# Altium integrated library NSC Analog.IntLib: 165 symbols (part 2 of 5)
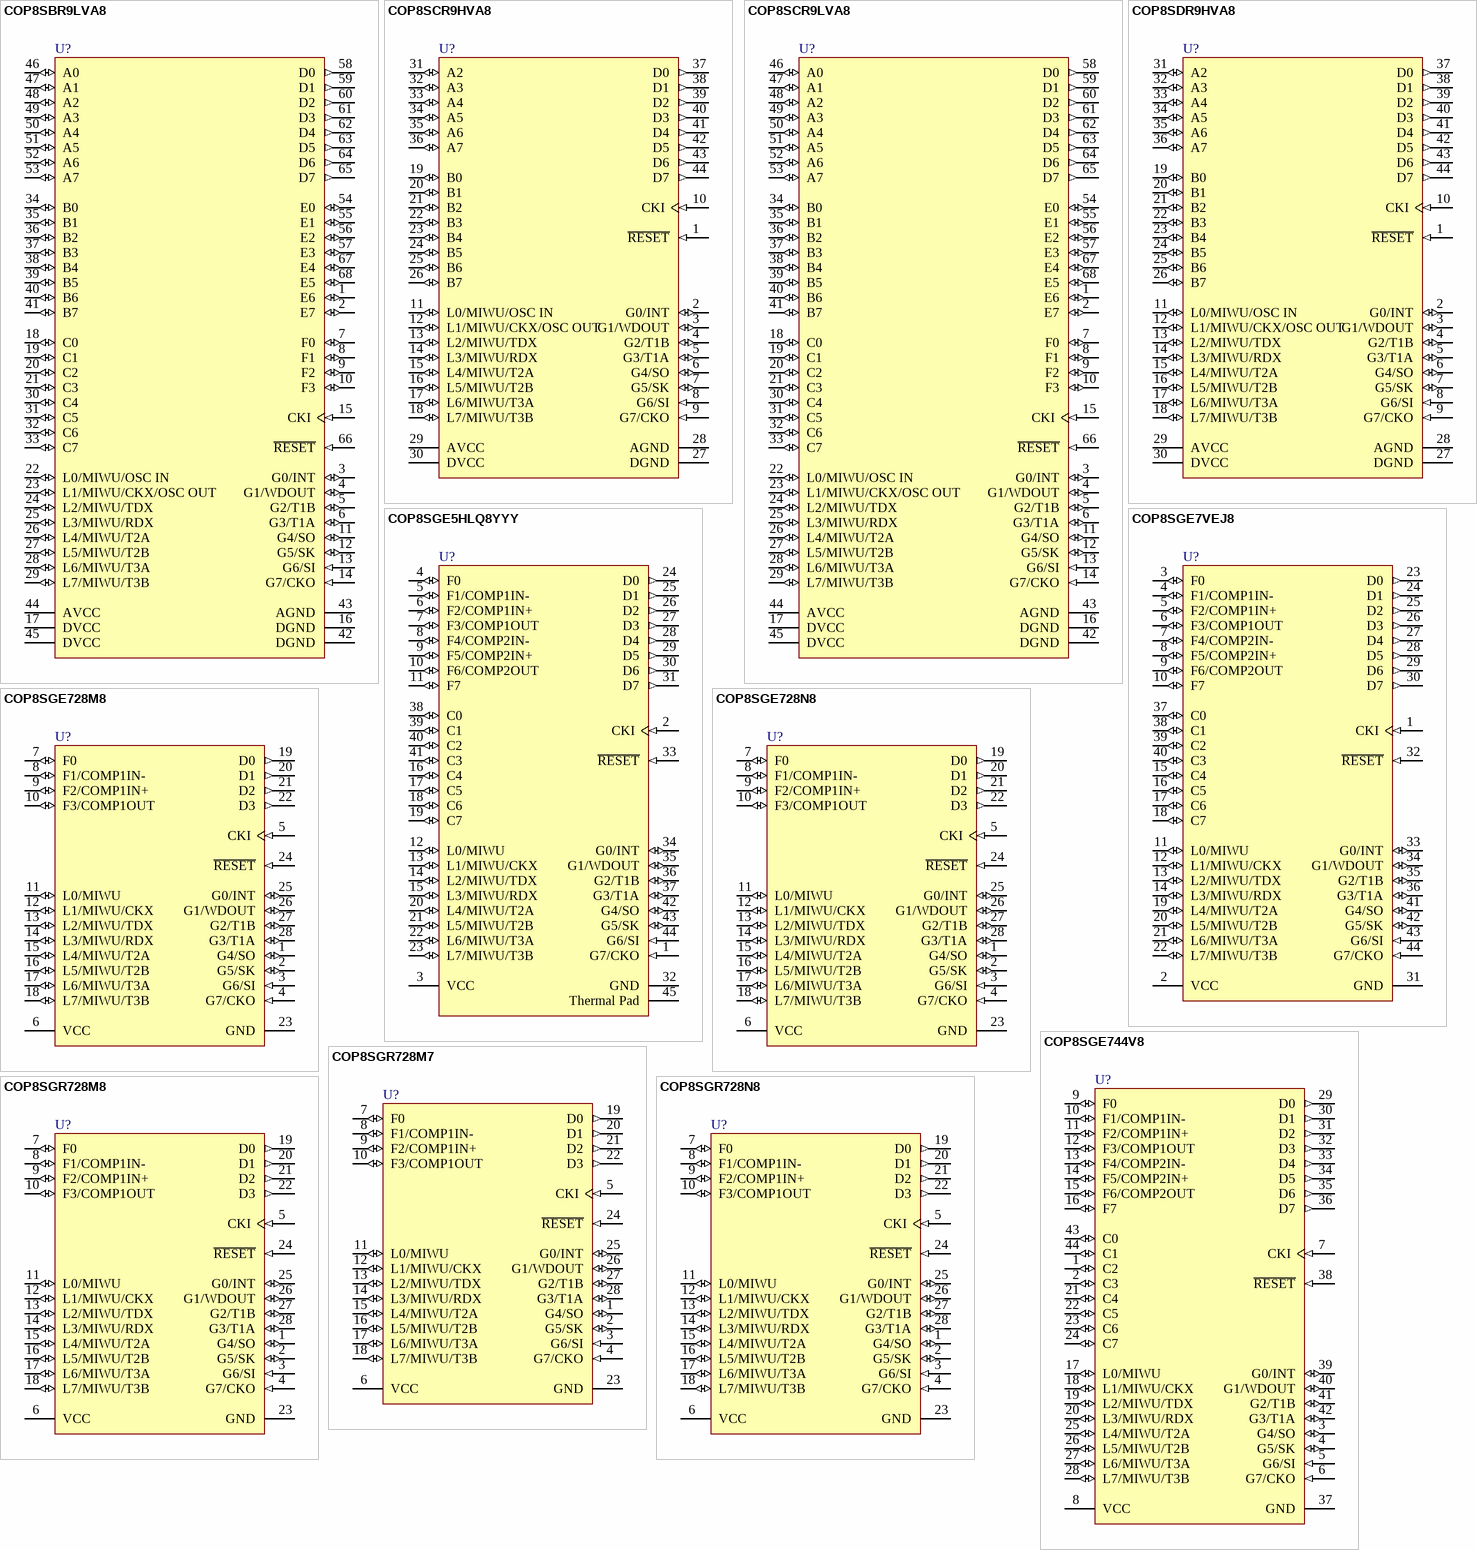
[diagram p8: symbols COP8SBR9LVA8 to COP8SGR728N8]

## COP8SGE728M8
designator U?
8-Bit CMOS ROM Based and OTP Microcontrollers with 8k to 32k Memory, Two Comparators and USART, 28-pin Wide SOIC; PartNumber: COP8SGE728M8; Manufacturer: National Semiconductor; PackageTopMarking: NSUZXYTTE#*COP8SGE7*28M8; PowerWise: N; CompType: Analog IC; Published: 4-Dec-2008; DatasheetVersion: Oct-2001; PackageVersion: revB, Nov-1997; PackageReference: M28B; Publisher: Altium Limited; PackageDescription: Molded Package, S.O., .300in Wide, 28 Lead; Supplier 1: Farnell; Supplier Part Number 1: 121850; RoHS: N; PinCount: 28; ComponentLink1Description: COP8SGE7 Datasheet; ComponentLink1URL: http://www.national.com/ds/CO/COP8SGE7.pdf; ComponentLink2Description: COP8SGE7 Web Page; ComponentLink2URL: http://www.national.com/pf/CO/COP8SGE7.html; ComponentLink3Description: M28B Package Page; ComponentLink3URL: http://www.national.com/packaging/folders/m28b.html
footprint M28B_N (SOIC, 28-Leads, Body 17.9x7.5mm, Pitch 1.27mm, IPC Medium Density)
footprint M28B_L (SOIC, 28-Leads, Body 17.9x7.5mm, Pitch 1.27mm, IPC High Density)
footprint M28B_M (SOIC, 28-Leads, Body 17.9x7.5mm, Pitch 1.27mm, IPC Low Density)
pins: 1 G4/SO (io), 2 G5/SK (io), 3 G6/SI (in), 4 G7/CKO (in), 5 CKI (in), 6 VCC (power), 7 F0 (io), 8 F1/COMP1IN- (io), 9 F2/COMP1IN+ (io), 10 F3/COMP1OUT (io), 11 L0/MIWU (io), 12 L1/MIWU/CKX (io), 13 L2/MIWU/TDX (io), 14 L3/MIWU/RDX (io), 15 L4/MIWU/T2A (io), 16 L5/MIWU/T2B (io), 17 L6/MIWU/T3A (io), 18 L7/MIWU/T3B (io), 19 D0 (out), 20 D1 (out), 21 D2 (out), 22 D3 (out), 23 GND (power), 24 ~{RESET} (in), 25 G0/INT (io), 26 G1/WDOUT (io), 27 G2/T1B (io), 28 G3/T1A (io)

## COP8SGE728N8
designator U?
8-Bit CMOS ROM Based and OTP Microcontrollers with 8k to 32k Memory, Two Comparators and USART, 28-pin MDIP; PartNumber: COP8SGE728N8; Manufacturer: National Semiconductor; PackageTopMarking: NSUZXYYTTE#*COP8SGE728N8; PowerWise: N; CompType: Analog IC; Published: 4-Dec-2008; DatasheetVersion: Oct-2001; PackageVersion: revB, Aug-1993; PackageReference: NA28E; Publisher: Altium Limited; PackageDescription: Molded Dip, 28 Lead, .600 Centers, Substractor Package; RoHS: N; PinCount: 28; ComponentLink1Description: COP8SGE7 Datasheet; ComponentLink1URL: http://www.national.com/ds/CO/COP8SGE7.pdf; ComponentLink2Description: COP8SGE7 Web Page; ComponentLink2URL: http://www.national.com/pf/CO/COP8SGE7.html; ComponentLink3Description: NA28E Package Page; ComponentLink3URL: http://www.national.com/packaging/folders/na28e.html
footprint NA28E (DIP, 28-Leads, Row Spacing 15.24mm, Pitch 2.54mm, Body 36.83x13.72mm)
pins: 1 G4/SO (io), 2 G5/SK (io), 3 G6/SI (in), 4 G7/CKO (in), 5 CKI (in), 6 VCC (power), 7 F0 (io), 8 F1/COMP1IN- (io), 9 F2/COMP1IN+ (io), 10 F3/COMP1OUT (io), 11 L0/MIWU (io), 12 L1/MIWU/CKX (io), 13 L2/MIWU/TDX (io), 14 L3/MIWU/RDX (io), 15 L4/MIWU/T2A (io), 16 L5/MIWU/T2B (io), 17 L6/MIWU/T3A (io), 18 L7/MIWU/T3B (io), 19 D0 (out), 20 D1 (out), 21 D2 (out), 22 D3 (out), 23 GND (power), 24 ~{RESET} (in), 25 G0/INT (io), 26 G1/WDOUT (io), 27 G2/T1B (io), 28 G3/T1A (io)

## COP8SGE744V8
designator U?
8-Bit CMOS ROM Based and OTP Microcontrollers with 8k to 32k Memory, Two Comparators and USART, 44-pin PLCC; PartNumber: COP8SGE744V8; Manufacturer: National Semiconductor; PackageTopMarking: NSUZXYYTTE#*COP8SGE744V8; PowerWise: N; CompType: Analog IC; Published: 4-Dec-2008; DatasheetVersion: Oct-2001; PackageVersion: revK, Dec-1993; PackageReference: V44A; Publisher: Altium Limited; PackageDescription: Plastic Chip Carrier, Sq, .050in Pitch, 44 Lead; RoHS: N; PinCount: 44; Code_IPC: PLCC-44; ComponentLink1Description: COP8SGE7 Datasheet; ComponentLink1URL: http://www.national.com/ds/CO/COP8SGE7.pdf; ComponentLink2Description: COP8SGE7 Web Page; ComponentLink2URL: http://www.national.com/pf/CO/COP8SGE7.html; ComponentLink3Description: V44A Package Page; ComponentLink3URL: http://www.national.com/packaging/folders/v44a.html
footprint V44A_N (Leaded Chip Carrier, 44-Leads, Body 16.6x16.6mm, Pitch 1.27mm, IPC Medium Density)
footprint V44A_L (Leaded Chip Carrier, 44-Leads, Body 16.6x16.6mm, Pitch 1.27mm, IPC High Density)
footprint V44A_M (Leaded Chip Carrier, 44-Leads, Body 16.6x16.6mm, Pitch 1.27mm, IPC Low Density)
pins: 1 C2 (io), 2 C3 (io), 3 G4/SO (io), 4 G5/SK (io), 5 G6/SI (in), 6 G7/CKO (in), 7 CKI (in), 8 VCC (power), 9 F0 (io), 10 F1/COMP1IN- (io), 11 F2/COMP1IN+ (io), 12 F3/COMP1OUT (io), 13 F4/COMP2IN- (io), 14 F5/COMP2IN+ (io), 15 F6/COMP2OUT (io), 16 F7 (io), 17 L0/MIWU (io), 18 L1/MIWU/CKX (io), 19 L2/MIWU/TDX (io), 20 L3/MIWU/RDX (io), 21 C4 (io), 22 C5 (io), 23 C6 (io), 24 C7 (io), 25 L4/MIWU/T2A (io), 26 L5/MIWU/T2B (io), 27 L6/MIWU/T3A (io), 28 L7/MIWU/T3B (io), 29 D0 (out), 30 D1 (out), 31 D2 (out), 32 D3 (out), 33 D4 (out), 34 D5 (out), 35 D6 (out), 36 D7 (out), 37 GND (power), 38 ~{RESET} (in), 39 G0/INT (io), 40 G1/WDOUT (io), 41 G2/T1B (io), 42 G3/T1A (io), 43 C0 (io), 44 C1 (io)

## COP8SGR728M7
designator U?
8-Bit CMOS ROM Based and OTP Microcontrollers with 8k to 32k Memory, Two Comparators and USART, 28-pin Wide SOIC; PartNumber: COP8SGR728M7; Manufacturer: National Semiconductor; PackageTopMarking: NSUZXYTTE#*COP8SGR728M7; PowerWise: N; CompType: Analog IC; Published: 4-Dec-2008; DatasheetVersion: Oct-2001; PackageVersion: revB, Nov-1997; PackageReference: M28B; Publisher: Altium Limited; PackageDescription: Molded Package, S.O., .300in Wide, 28 Lead; RoHS: N; PinCount: 28; ComponentLink1Description: COP8SGR7 Datasheet; ComponentLink1URL: http://www.national.com/ds/CO/COP8SGR7.pdf; ComponentLink2Description: COP8SGR7 Web Page; ComponentLink2URL: http://www.national.com/pf/CO/COP8SGR7.html; ComponentLink3Description: M28B Package Page; ComponentLink3URL: http://www.national.com/packaging/folders/m28b.html
footprint M28B_N (SOIC, 28-Leads, Body 17.9x7.5mm, Pitch 1.27mm, IPC Medium Density)
footprint M28B_L (SOIC, 28-Leads, Body 17.9x7.5mm, Pitch 1.27mm, IPC High Density)
footprint M28B_M (SOIC, 28-Leads, Body 17.9x7.5mm, Pitch 1.27mm, IPC Low Density)
pins: 1 G4/SO (io), 2 G5/SK (io), 3 G6/SI (in), 4 G7/CKO (in), 5 CKI (in), 6 VCC (power), 7 F0 (io), 8 F1/COMP1IN- (io), 9 F2/COMP1IN+ (io), 10 F3/COMP1OUT (io), 11 L0/MIWU (io), 12 L1/MIWU/CKX (io), 13 L2/MIWU/TDX (io), 14 L3/MIWU/RDX (io), 15 L4/MIWU/T2A (io), 16 L5/MIWU/T2B (io), 17 L6/MIWU/T3A (io), 18 L7/MIWU/T3B (io), 19 D0 (out), 20 D1 (out), 21 D2 (out), 22 D3 (out), 23 GND (power), 24 ~{RESET} (in), 25 G0/INT (io), 26 G1/WDOUT (io), 27 G2/T1B (io), 28 G3/T1A (io)

## COP8SGR728M8
designator U?
8-Bit CMOS ROM Based and OTP Microcontrollers with 8k to 32k Memory, Two Comparators and USART, 28-pin Wide SOIC; PartNumber: COP8SGR728M8; Manufacturer: National Semiconductor; PackageTopMarking: NSUZXYTTE#*COP8SGR728M8; PowerWise: N; CompType: Analog IC; Published: 4-Dec-2008; DatasheetVersion: Oct-2001; PackageVersion: revB, Nov-1997; PackageReference: M28B; Publisher: Altium Limited; PackageDescription: Molded Package, S.O., .300in Wide, 28 Lead; RoHS: N; PinCount: 28; ComponentLink1Description: COP8SGR7 Datasheet; ComponentLink1URL: http://www.national.com/ds/CO/COP8SGR7.pdf; ComponentLink2Description: COP8SGR7 Web Page; ComponentLink2URL: http://www.national.com/pf/CO/COP8SGR7.html; ComponentLink3Description: M28B Package Page; ComponentLink3URL: http://www.national.com/packaging/folders/m28b.html
footprint M28B_N (SOIC, 28-Leads, Body 17.9x7.5mm, Pitch 1.27mm, IPC Medium Density)
footprint M28B_L (SOIC, 28-Leads, Body 17.9x7.5mm, Pitch 1.27mm, IPC High Density)
footprint M28B_M (SOIC, 28-Leads, Body 17.9x7.5mm, Pitch 1.27mm, IPC Low Density)
pins: 1 G4/SO (io), 2 G5/SK (io), 3 G6/SI (in), 4 G7/CKO (in), 5 CKI (in), 6 VCC (power), 7 F0 (io), 8 F1/COMP1IN- (io), 9 F2/COMP1IN+ (io), 10 F3/COMP1OUT (io), 11 L0/MIWU (io), 12 L1/MIWU/CKX (io), 13 L2/MIWU/TDX (io), 14 L3/MIWU/RDX (io), 15 L4/MIWU/T2A (io), 16 L5/MIWU/T2B (io), 17 L6/MIWU/T3A (io), 18 L7/MIWU/T3B (io), 19 D0 (out), 20 D1 (out), 21 D2 (out), 22 D3 (out), 23 GND (power), 24 ~{RESET} (in), 25 G0/INT (io), 26 G1/WDOUT (io), 27 G2/T1B (io), 28 G3/T1A (io)

## COP8SGR728N8
designator U?
8-Bit CMOS ROM Based and OTP Microcontrollers with 8k to 32k Memory, Two Comparators and USART, 28-pin MDIP; PartNumber: COP8SGR728N8; Manufacturer: National Semiconductor; PackageTopMarking: NSUZXYYTTE#*COP8SGR728N8; PowerWise: N; CompType: Analog IC; Published: 4-Dec-2008; DatasheetVersion: Oct-2001; PackageVersion: revB, Aug-1993; PackageReference: NA28E; Publisher: Altium Limited; PackageDescription: Molded Dip, 28 Lead, .600 Centers, Substractor Package; RoHS: N; PinCount: 28; ComponentLink1Description: COP8SGR7 Datasheet; ComponentLink1URL: http://www.national.com/ds/CO/COP8SGR7.pdf; ComponentLink2Description: COP8SGR7 Web Page; ComponentLink2URL: http://www.national.com/pf/CO/COP8SGR7.html; ComponentLink3Description: NA28E Package Page; ComponentLink3URL: http://www.national.com/packaging/folders/na28e.html
footprint NA28E (DIP, 28-Leads, Row Spacing 15.24mm, Pitch 2.54mm, Body 36.83x13.72mm)
pins: 1 G4/SO (io), 2 G5/SK (io), 3 G6/SI (in), 4 G7/CKO (in), 5 CKI (in), 6 VCC (power), 7 F0 (io), 8 F1/COMP1IN- (io), 9 F2/COMP1IN+ (io), 10 F3/COMP1OUT (io), 11 L0/MIWU (io), 12 L1/MIWU/CKX (io), 13 L2/MIWU/TDX (io), 14 L3/MIWU/RDX (io), 15 L4/MIWU/T2A (io), 16 L5/MIWU/T2B (io), 17 L6/MIWU/T3A (io), 18 L7/MIWU/T3B (io), 19 D0 (out), 20 D1 (out), 21 D2 (out), 22 D3 (out), 23 GND (power), 24 ~{RESET} (in), 25 G0/INT (io), 26 G1/WDOUT (io), 27 G2/T1B (io), 28 G3/T1A (io)

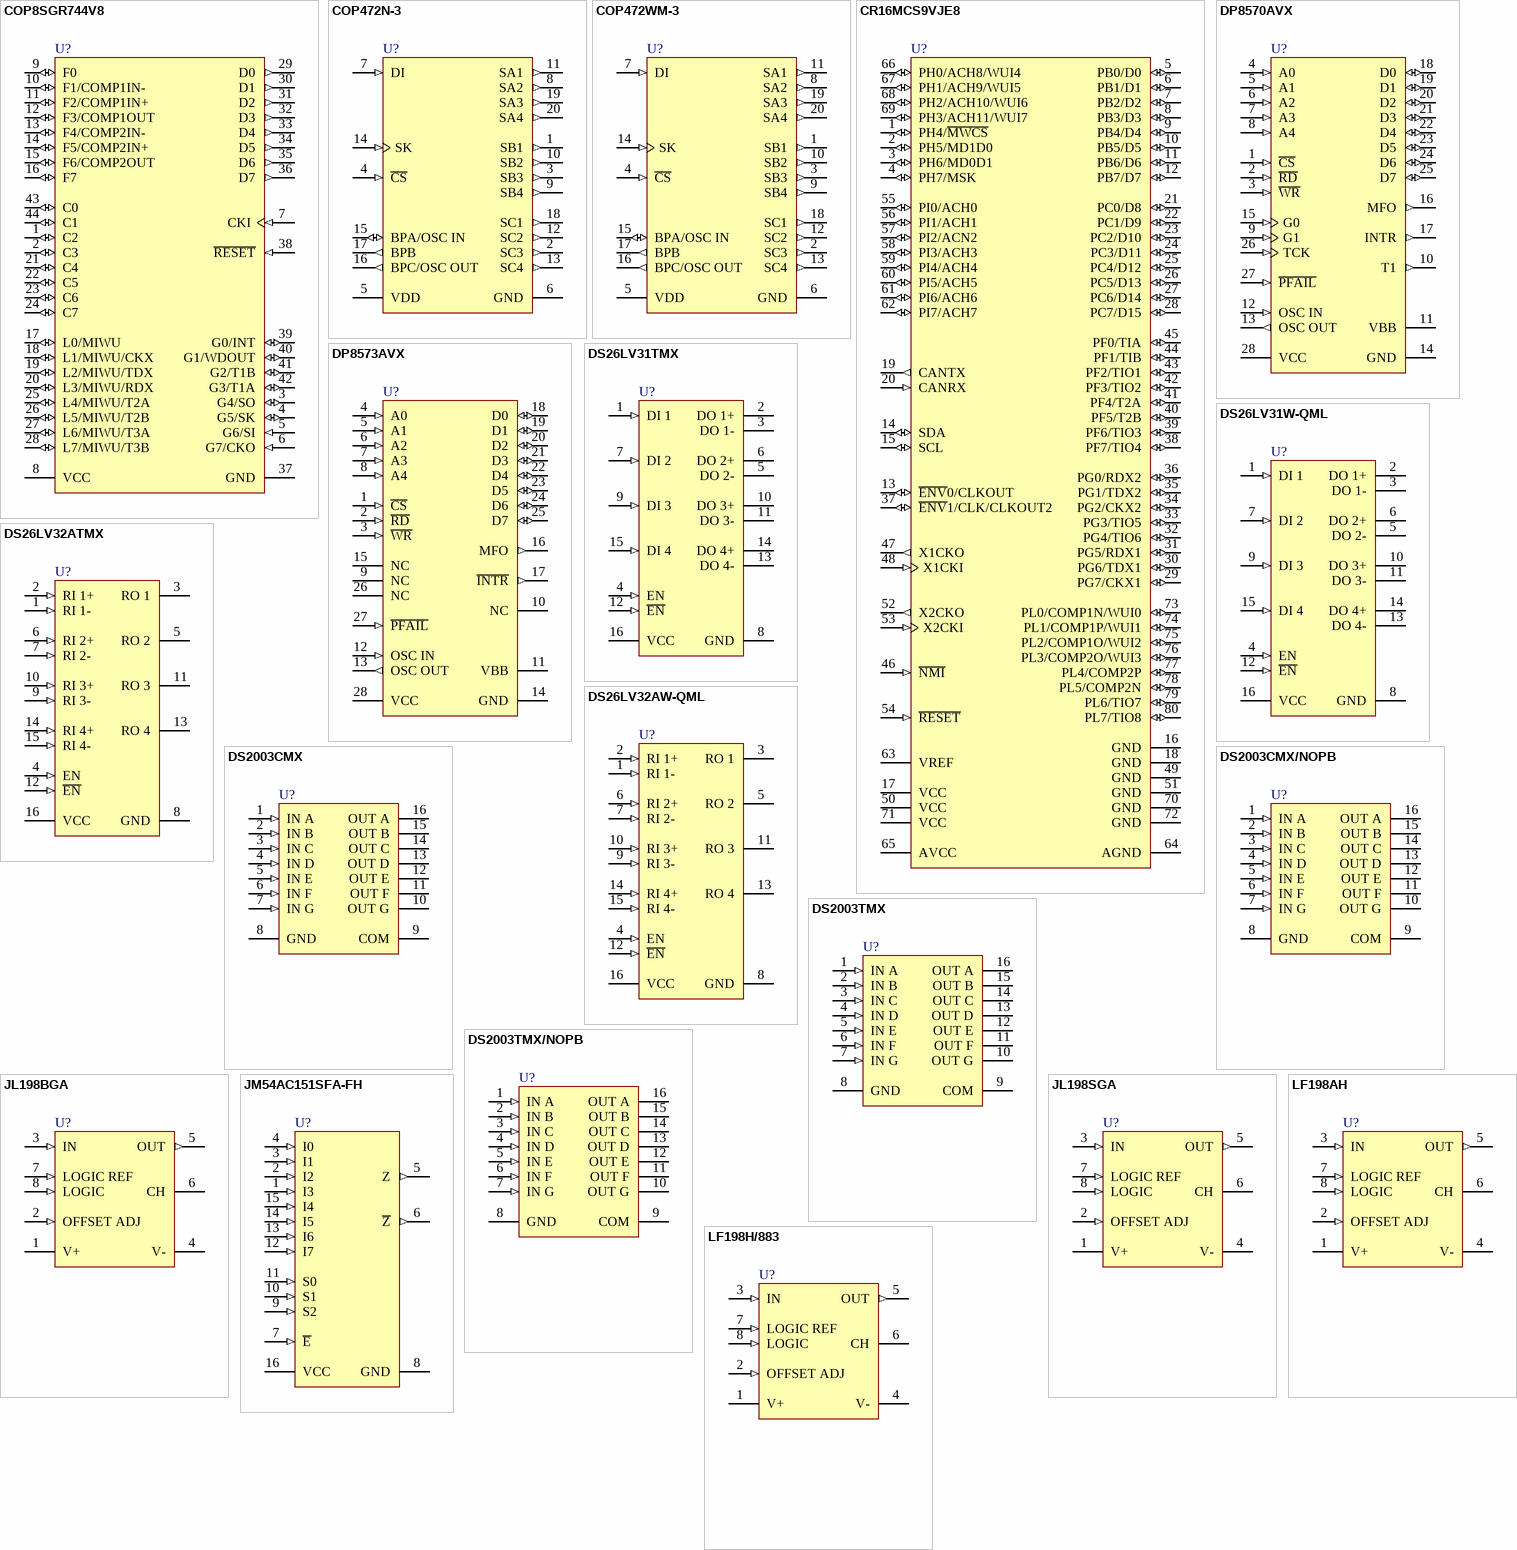
[diagram p3: symbols COP8SGR744V8 to LF198H/883]

## COP8SGR744V8
designator U?
8-Bit CMOS ROM Based and OTP Microcontrollers with 8k to 32k Memory, Two Comparators and USART, 44-pin PLCC; PartNumber: COP8SGR744V8; Manufacturer: National Semiconductor; PackageTopMarking: NSUZXYYTTE#*COP8SGR744V8; PowerWise: N; CompType: Analog IC; Published: 4-Dec-2008; DatasheetVersion: Oct-2001; PackageVersion: revK, Dec-1993; PackageReference: V44A; Publisher: Altium Limited; PackageDescription: Plastic Chip Carrier, Sq, .050in Pitch, 44 Lead; Supplier 1: Farnell; Supplier Part Number 1: 1197390; RoHS: N; PinCount: 44; Code_IPC: PLCC-44; ComponentLink1Description: COP8SGR7 Datasheet; ComponentLink1URL: http://www.national.com/ds/CO/COP8SGR7.pdf; ComponentLink2Description: COP8SGR7 Web Page; ComponentLink2URL: http://www.national.com/pf/CO/COP8SGR7.html; ComponentLink3Description: V44A Package Page; ComponentLink3URL: http://www.national.com/packaging/folders/v44a.html
footprint V44A_N (Leaded Chip Carrier, 44-Leads, Body 16.6x16.6mm, Pitch 1.27mm, IPC Medium Density)
footprint V44A_L (Leaded Chip Carrier, 44-Leads, Body 16.6x16.6mm, Pitch 1.27mm, IPC High Density)
footprint V44A_M (Leaded Chip Carrier, 44-Leads, Body 16.6x16.6mm, Pitch 1.27mm, IPC Low Density)
pins: 1 C2 (io), 2 C3 (io), 3 G4/SO (io), 4 G5/SK (io), 5 G6/SI (in), 6 G7/CKO (in), 7 CKI (in), 8 VCC (power), 9 F0 (io), 10 F1/COMP1IN- (io), 11 F2/COMP1IN+ (io), 12 F3/COMP1OUT (io), 13 F4/COMP2IN- (io), 14 F5/COMP2IN+ (io), 15 F6/COMP2OUT (io), 16 F7 (io), 17 L0/MIWU (io), 18 L1/MIWU/CKX (io), 19 L2/MIWU/TDX (io), 20 L3/MIWU/RDX (io), 21 C4 (io), 22 C5 (io), 23 C6 (io), 24 C7 (io), 25 L4/MIWU/T2A (io), 26 L5/MIWU/T2B (io), 27 L6/MIWU/T3A (io), 28 L7/MIWU/T3B (io), 29 D0 (out), 30 D1 (out), 31 D2 (out), 32 D3 (out), 33 D4 (out), 34 D5 (out), 35 D6 (out), 36 D7 (out), 37 GND (power), 38 ~{RESET} (in), 39 G0/INT (io), 40 G1/WDOUT (io), 41 G2/T1B (io), 42 G3/T1A (io), 43 C0 (io), 44 C1 (io)

## COP472N-3
designator U?
Liquid Crystal Display Controller, 20-pin MDIP; PartNumber: COP472N-3; Manufacturer: National Semiconductor; PackageTopMarking: NSUZXYYTTE#*COP472N-3; PowerWise: N; CompType: Analog IC; Published: 4-Dec-2008; DatasheetVersion: Jul-1995; PackageVersion: revG, Nov-1984; PackageReference: N20A; Publisher: Altium Limited; PackageDescription: Molded Dip (N) 20 Lead; RoHS: N; PinCount: 20; Code_JEDEC: MS-001-AD; ComponentLink1Description: COP472-3 Datasheet; ComponentLink1URL: http://www.national.com/ds/CO/COP472-3.pdf; ComponentLink2Description: COP472-3 Web Page; ComponentLink2URL: http://www.national.com/pf/CO/COP472-3.html; ComponentLink3Description: N20A Package Page; ComponentLink3URL: http://www.national.com/packaging/folders/n20a.html
footprint N20A (DIP, 20-Leads, Row Spacing 7.62mm, Pitch 2.54mm, Body 26.07x6.6mm)
pins: 1 SB1 (out), 2 SC3 (out), 3 SB3 (out), 4 ~{CS} (in), 5 VDD (power), 6 GND (power), 7 DI (in), 8 SA2 (out), 9 SB4 (out), 10 SB2 (out), 11 SA1 (out), 12 SC2 (out), 13 SC4 (out), 14 SK (in), 15 BPA/OSC IN (io), 16 BPC/OSC OUT (out), 17 BPB (out), 18 SC1 (out), 19 SA3 (out), 20 SA4 (out)

## COP472WM-3
designator U?
Liquid Crystal Display Controller, 20-pin Wide SOIC; PartNumber: COP472WM-3; Manufacturer: National Semiconductor; PackageTopMarking: NSUZXYTTE#*COP472WM-3; PowerWise: N; CompType: Analog IC; Published: 4-Dec-2008; DatasheetVersion: Jul-1995; PackageVersion: revG, Jan-1996; PackageReference: M20B; Publisher: Altium Limited; PackageDescription: Molded Package, S0, .300in Wide, 20 Lead; RoHS: N; PinCount: 20; Code_JEDEC: MS-013-AC; Code_IPC: SOIC127P1030-20; ComponentLink1Description: COP472-3 Datasheet; ComponentLink1URL: http://www.national.com/ds/CO/COP472-3.pdf; ComponentLink2Description: COP472-3 Web Page; ComponentLink2URL: http://www.national.com/pf/CO/COP472-3.html; ComponentLink3Description: M20B Package Page; ComponentLink3URL: http://www.national.com/packaging/folders/m20b.html
footprint M20B_N (SOIC, 20-Leads, Body 12.8x7.5mm, Pitch 1.27mm, IPC Medium Density)
footprint M20B_L (SOIC, 20-Leads, Body 12.8x7.5mm, Pitch 1.27mm, IPC High Density)
footprint M20B_M (SOIC, 20-Leads, Body 12.8x7.5mm, Pitch 1.27mm, IPC Low Density)
pins: 1 SB1 (out), 2 SC3 (out), 3 SB3 (out), 4 ~{CS} (in), 5 VDD (power), 6 GND (power), 7 DI (in), 8 SA2 (out), 9 SB4 (out), 10 SB2 (out), 11 SA1 (out), 12 SC2 (out), 13 SC4 (out), 14 SK (in), 15 BPA/OSC IN (io), 16 BPC/OSC OUT (out), 17 BPB (out), 18 SC1 (out), 19 SA3 (out), 20 SA4 (out)

## CR16MCS9VJE8
designator U?
Family of 16-bit CAN-enabled CompactRISC Microcontrollers, 80 pin PQFP; PartNumber: CR16MCS9VJE8; Manufacturer: National Semiconductor; PackageTopMarking: NS2ZXYYTTE#*CR16MCS9*VJE8; PowerWise: N; CompType: Analog IC; Published: 16-Nov-2010; DatasheetVersion: Jan-2002; PackageVersion: revE, Jul-1995; PackageReference: VJE80A; Publisher: Altium Limited; PackageDescription: 80-Pin PQFP, JEDEC Metric, 14 x 14 x 2.0 mm Body, 0.65 mm Pitch; RoHS: N; PinCount: 80; Code_JEDEC: MS-022-BC; ComponentLink1Description: CR16MCS9 Datasheet; ComponentLink1URL: http://www.national.com/ds/CR/CR16MCS9.pdf; ComponentLink2Description: CR16MCS9 Web Page; ComponentLink2URL: http://www.national.com/pf/CR/CR16MCS9.html; ComponentLink3Description: VJE80A Package Page; ComponentLink3URL: http://www.national.com/packaging/folders/vje80a.html
footprint VJE80A_N (QFP, 80-Leads, Body 14x14mm, Pitch 0.65mm, IPC Medium Density)
footprint VJE80A_L (QFP, 80-Leads, Body 14x14mm, Pitch 0.65mm, IPC High Density)
footprint VJE80A_M (QFP, 80-Leads, Body 14x14mm, Pitch 0.65mm, IPC Low Density)
pins: 1 PH4/~{MWCS} (io), 2 PH5/MD1D0 (io), 3 PH6/MD0D1 (io), 4 PH7/MSK (io), 5 PB0/D0 (io), 6 PB1/D1 (io), 7 PB2/D2 (io), 8 PB3/D3 (io), 9 PB4/D4 (io), 10 PB5/D5 (io), 11 PB6/D6 (io), 12 PB7/D7 (io), 13 ~{ENV}0/CLKOUT (io), 14 SDA (io), 15 SCL (io), 16 GND (power), 17 VCC (power), 18 GND (power), 19 CANTX (out), 20 CANRX (in), 21 PC0/D8 (io), 22 PC1/D9 (io), 23 PC2/D10 (io), 24 PC3/D11 (io), 25 PC4/D12 (io), 26 PC5/D13 (io), 27 PC6/D14 (io), 28 PC7/D15 (io), 29 PG7/CKX1 (io), 30 PG6/TDX1 (io), 31 PG5/RDX1 (io), 32 PG4/TIO6 (io), 33 PG3/TIO5 (io), 34 PG2/CKX2 (io), 35 PG1/TDX2 (io), 36 PG0/RDX2 (io), 37 ~{ENV}1/CLK/CLKOUT2 (io), 38 PF7/TIO4 (io), 39 PF6/TIO3 (io), 40 PF5/T2B (io), 41 PF4/T2A (io), 42 PF3/TIO2 (io), 43 PF2/TIO1 (io), 44 PF1/TIB (io), 45 PF0/TIA (io), 46 ~{NMI} (in), 47 X1CKO (out), 48 X1CKI (in), 49 GND (power), 50 VCC (power), 51 GND (power), 52 X2CKO (out), 53 X2CKI (in), 54 ~{RESET} (in), 55 PI0/ACH0 (io), 56 PI1/ACH1 (io), 57 PI2/ACN2 (io), 58 PI3/ACH3 (io), 59 PI4/ACH4 (io), 60 PI5/ACH5 (io), 61 PI6/ACH6 (io), 62 PI7/ACH7 (io), 63 VREF (power), 64 AGND (power), 65 AVCC (power), 66 PH0/ACH8/WUI4 (io), 67 PH1/ACH9/WUI5 (io), 68 PH2/ACH10/WUI6 (io), 69 PH3/ACH11/WUI7 (io), 70 GND (power), 71 VCC (power), 72 GND (power), 73 PL0/COMP1N/WUI0 (io), 74 PL1/COMP1P/WUI1 (io), 75 PL2/COMP1O/WUI2 (io), 76 PL3/COMP2O/WUI3 (io), 77 PL4/COMP2P (io), 78 PL5/COMP2N (io), 79 PL6/TIO7 (io), 80 PL7/TIO8 (io)

## DP8570AVX
designator U?
Timer Control Peripheral (TCP), 28-pin PLCC; PartNumber: DP8570AVX; Manufacturer: National Semiconductor; PackageTopMarking: NSUZXYYTTE#*DP8570AV; PowerWise: N; CompType: Analog IC; Published: 4-Dec-2008; DatasheetVersion: May-1993; PackageVersion: revK, Dec-1993; PackageReference: V28A; Publisher: Altium Limited; PackageDescription: Plastic Chip Carrier, Sq., .050in Pitch, 28 Lead; RoHS: N; PinCount: 28; Code_IPC: PLCC-28; ComponentLink1Description: DP8570A Datasheet; ComponentLink1URL: http://www.national.com/ds/DP/DP8570A.pdf; ComponentLink2Description: DP8570A Web Page; ComponentLink2URL: http://www.national.com/pf/DP/DP8570A.html; ComponentLink3Description: V28A Package Page; ComponentLink3URL: http://www.national.com/packaging/folders/v28a.html
footprint V28A_N (Leaded Chip Carrier, 28-Leads, Body 11.5x11.5mm, Pitch 1.27mm, IPC Medium Density)
footprint V28A_L (Leaded Chip Carrier, 28-Leads, Body 11.5x11.5mm, Pitch 1.27mm, IPC High Density)
footprint V28A_M (Leaded Chip Carrier, 28-Leads, Body 11.5x11.5mm, Pitch 1.27mm, IPC Low Density)
pins: 1 ~{CS} (in), 2 ~{RD} (in), 3 ~{WR} (in), 4 A0 (in), 5 A1 (in), 6 A2 (in), 7 A3 (in), 8 A4 (in), 9 G1 (in), 10 T1 (out), 11 VBB (power), 12 OSC IN (in), 13 OSC OUT (out), 14 GND (power), 15 G0 (in), 16 MFO (out), 17 INTR (out), 18 D0 (io), 19 D1 (io), 20 D2 (io), 21 D3 (io), 22 D4 (io), 23 D5 (io), 24 D6 (io), 25 D7 (io), 26 TCK (in), 27 ~{PFAIL} (in), 28 VCC (power)

## DP8573AVX
designator U?
Real Time Clock (RTC), 28-pin PLCC; PartNumber: DP8573AVX; Manufacturer: National Semiconductor; PackageTopMarking: NSUZXYYTTE#*DP8573AV; PowerWise: N; CompType: Analog IC; Published: 4-Dec-2008; DatasheetVersion: May-1993; PackageVersion: revK, Dec-1993; PackageReference: V28A; Publisher: Altium Limited; PackageDescription: Plastic Chip Carrier, Sq., .050in Pitch, 28 Lead; RoHS: N; PinCount: 28; Code_IPC: PLCC-28; ComponentLink1Description: DP8573A Datasheet; ComponentLink1URL: http://www.national.com/ds/DP/DP8573A.pdf; ComponentLink2Description: DP8573A Web Page; ComponentLink2URL: http://www.national.com/pf/DP/DP8573A.html; ComponentLink3Description: V28A Package Page; ComponentLink3URL: http://www.national.com/packaging/folders/v28a.html
footprint V28A_N (Leaded Chip Carrier, 28-Leads, Body 11.5x11.5mm, Pitch 1.27mm, IPC Medium Density)
footprint V28A_L (Leaded Chip Carrier, 28-Leads, Body 11.5x11.5mm, Pitch 1.27mm, IPC High Density)
footprint V28A_M (Leaded Chip Carrier, 28-Leads, Body 11.5x11.5mm, Pitch 1.27mm, IPC Low Density)
pins: 1 ~{CS} (in), 2 ~{RD} (in), 3 ~{WR} (in), 4 A0 (in), 5 A1 (in), 6 A2 (in), 7 A3 (in), 8 A4 (in), 9 NC, 10 NC, 11 VBB (power), 12 OSC IN (in), 13 OSC OUT (out), 14 GND (power), 15 NC, 16 MFO (out), 17 ~{INTR} (out), 18 D0 (io), 19 D1 (io), 20 D2 (io), 21 D3 (io), 22 D4 (io), 23 D5 (io), 24 D6 (io), 25 D7 (io), 26 NC, 27 ~{PFAIL} (in), 28 VCC (power)

## DS26LV31TMX
designator U?
3V Enhanced CMOS Quad Differential Line Driver, 16-pin Narrow SOIC; PartNumber: DS26LV31TMX; Manufacturer: National Semiconductor; PackageTopMarking: NSUZXYTTE#*DS26LV31*TM; PowerWise: N; CompType: Analog IC; Published: 4-Dec-2008; DatasheetVersion: Mar-1999; PackageVersion: revJ, Aug-1995; PackageReference: M16A; Publisher: Altium Limited; PackageDescription: Molded Package, SO, .150in Wide, 16 Lead; RoHS: N; PinCount: 16; Code_JEDEC: MS-012-AC; Code_IPC: SOIC127P600-16; ComponentLink1Description: DS26LV31T Datasheet; ComponentLink1URL: http://www.national.com/ds/DS/DS26LV31T.pdf; ComponentLink2Description: DS26LV31T Web Page; ComponentLink2URL: http://www.national.com/pf/DS/DS26LV31T.html; ComponentLink3Description: M16A Package Page; ComponentLink3URL: http://www.national.com/packaging/folders/m16a.html
footprint M16A_N (SOIC, 16-Leads, Body 9.9x3.9mm, Pitch 1.27mm, IPC Medium Density)
footprint M16A_L (SOIC, 16-Leads, Body 9.9x3.9mm, Pitch 1.27mm, IPC High Density)
footprint M16A_M (SOIC, 16-Leads, Body 9.9x3.9mm, Pitch 1.27mm, IPC Low Density)
pins: 1 DI 1 (in), 2 DO 1+ (hiz), 3 DO 1- (hiz), 4 EN (in), 5 DO 2- (hiz), 6 DO 2+ (hiz), 7 DI 2 (in), 8 GND (power), 9 DI 3 (in), 10 DO 3+ (hiz), 11 DO 3- (hiz), 12 ~{EN} (in), 13 DO 4- (hiz), 14 DO 4+ (hiz), 15 DI 4 (in), 16 VCC (power)

## DS26LV31W-QML
designator U?
3V Enhanced CMOS Quad Differential Line Driver, 16 pin CERPACK; PartNumber: DS26LV31W-QML; Manufacturer: National Semiconductor; PackageTopMarking: NSZSSXXYYA*DS26LV31W-*QML Q 5962-*9858401QFA; PowerWise: N; CompType: Analog IC; High-Reliability: Y; Published: 16-Nov-2010; DatasheetVersion: Mar-2006; PackageVersion: revT, Jul-2005; PackageReference: W16A; Publisher: Altium Limited; PackageDescription: Cerpack, .390 x .250 x .074in Body, 16 Lead, .050in Pitch; RoHS: N; PinCount: 16; Code_JEDEC: MO-092-AC; ComponentLink1Description: DS26LV31QML Datasheet; ComponentLink1URL: http://www.national.com/ds/DS/DS26LV31QML.pdf; ComponentLink2Description: DS26LV31QML Web Page; ComponentLink2URL: http://www.national.com/pf/DS/DS26LV31QML.html; ComponentLink3Description: W16A Package Page; ComponentLink3URL: http://www.national.com/packaging/folders/w16a.html
footprint W16A (DFP; 16 Leads; Body 9.9 x 7.6 mm (LxW max); Pitch 1.27 mm)
pins: 1 DI 1 (in), 2 DO 1+ (hiz), 3 DO 1- (hiz), 4 EN (in), 5 DO 2- (hiz), 6 DO 2+ (hiz), 7 DI 2 (in), 8 GND (power), 9 DI 3 (in), 10 DO 3+ (hiz), 11 DO 3- (hiz), 12 ~{EN} (in), 13 DO 4- (hiz), 14 DO 4+ (hiz), 15 DI 4 (in), 16 VCC (power)

## DS26LV32ATMX
designator U?
3V Enhanced CMOS Quad Differential Line Receiver, 16-pin Narrow SOIC; PartNumber: DS26LV32ATMX; Manufacturer: National Semiconductor; PackageTopMarking: NSUZXYTTE#*DS26LV32A*TM; PowerWise: N; CompType: Analog IC; Published: 4-Dec-2008; DatasheetVersion: Mar-2000; PackageVersion: revJ, Aug-1995; PackageReference: M16A; Publisher: Altium Limited; PackageDescription: Molded Package, SO, .150in Wide, 16 Lead; RoHS: N; PinCount: 16; Code_JEDEC: MS-012-AC; Code_IPC: SOIC127P600-16; ComponentLink1Description: DS26LV32AT Datasheet; ComponentLink1URL: http://www.national.com/ds/DS/DS26LV32AT.pdf; ComponentLink2Description: DS26LV32AT Web Page; ComponentLink2URL: http://www.national.com/pf/DS/DS26LV32AT.html; ComponentLink3Description: M16A Package Page; ComponentLink3URL: http://www.national.com/packaging/folders/m16a.html
footprint M16A_N (SOIC, 16-Leads, Body 9.9x3.9mm, Pitch 1.27mm, IPC Medium Density)
footprint M16A_L (SOIC, 16-Leads, Body 9.9x3.9mm, Pitch 1.27mm, IPC High Density)
footprint M16A_M (SOIC, 16-Leads, Body 9.9x3.9mm, Pitch 1.27mm, IPC Low Density)
pins: 1 RI 1- (in), 2 RI 1+ (in), 3 RO 1 (hiz), 4 EN (in), 5 RO 2 (hiz), 6 RI 2+ (in), 7 RI 2- (in), 8 GND (power), 9 RI 3- (in), 10 RI 3+ (in), 11 RO 3 (hiz), 12 ~{EN} (in), 13 RO 4 (hiz), 14 RI 4+ (in), 15 RI 4- (in), 16 VCC (power)

## DS26LV32AW-QML
designator U?
3V Enhanced CMOS Quad Differential Line Receiver, 16 pin CERPACK; PartNumber: DS26LV32AW-QML; Manufacturer: National Semiconductor; PackageTopMarking: NSZSSXXYYA*DS26LV32AW-*QML Q 5962-*9858501QFA; PowerWise: N; CompType: Analog IC; High-Reliability: Y; Published: 16-Nov-2010; DatasheetVersion: Mar-2006; PackageVersion: revT, Jul-2005; PackageReference: W16A; Publisher: Altium Limited; PackageDescription: Cerpack, .390 x .250 x .074in Body, 16 Lead, .050in Pitch; RoHS: N; PinCount: 16; Code_JEDEC: MO-092-AC; ComponentLink1Description: DS26LV32AQML Datasheet; ComponentLink1URL: http://www.national.com/ds/DS/DS26LV32AQML.pdf; ComponentLink2Description: DS26LV32AQML Web Page; ComponentLink2URL: http://www.national.com/pf/DS/DS26LV32AQML.html; ComponentLink3Description: W16A Package Page; ComponentLink3URL: http://www.national.com/packaging/folders/w16a.html
footprint W16A (DFP; 16 Leads; Body 9.9 x 7.6 mm (LxW max); Pitch 1.27 mm)
pins: 1 RI 1- (in), 2 RI 1+ (in), 3 RO 1 (hiz), 4 EN (in), 5 RO 2 (hiz), 6 RI 2+ (in), 7 RI 2- (in), 8 GND (power), 9 RI 3- (in), 10 RI 3+ (in), 11 RO 3 (hiz), 12 ~{EN} (in), 13 RO 4 (hiz), 14 RI 4+ (in), 15 RI 4- (in), 16 VCC (power)

## DS2003CMX
designator U?
High Current/Voltage Darlington Drivers, 16-pin Narrow SOIC; PartNumber: DS2003CMX; Manufacturer: National Semiconductor; PackageTopMarking: NSUZXYTTE#*DS2003CM; PowerWise: N; CompType: Analog IC; Published: 4-Dec-2008; DatasheetVersion: Nov-2009; PackageVersion: revJ, Aug-1995; PackageReference: M16A; Publisher: Altium Limited; PackageDescription: Molded Package, SO, .150in Wide, 16 Lead; RoHS: N; PinCount: 16; Code_JEDEC: MS-012-AC; Code_IPC: SOIC127P600-16; ComponentLink1Description: DS2003 Datasheet; ComponentLink1URL: http://www.national.com/ds/DS/DS2003.pdf; ComponentLink2Description: DS2003 Web Page; ComponentLink2URL: http://www.national.com/pf/DS/DS2003.html; ComponentLink3Description: M16A Package Page; ComponentLink3URL: http://www.national.com/packaging/folders/m16a.html
footprint M16A_N (SOIC, 16-Leads, Body 9.9x3.9mm, Pitch 1.27mm, IPC Medium Density)
footprint M16A_L (SOIC, 16-Leads, Body 9.9x3.9mm, Pitch 1.27mm, IPC High Density)
footprint M16A_M (SOIC, 16-Leads, Body 9.9x3.9mm, Pitch 1.27mm, IPC Low Density)
pins: 1 IN A (in), 2 IN B (in), 3 IN C (in), 4 IN D (in), 5 IN E (in), 6 IN F (in), 7 IN G (in), 8 GND (power), 9 COM, 10 OUT G (oc), 11 OUT F (oc), 12 OUT E (oc), 13 OUT D (oc), 14 OUT C (oc), 15 OUT B (oc), 16 OUT A (oc)

## DS2003CMX/NOPB
designator U?
High Current/Voltage Darlington Driver, 16-pin Narrow SOIC, Pb-Free; PartNumber: DS2003CMX/NOPB; Manufacturer: National Semiconductor; PackageTopMarking: NSUZXYTTE#*DS2003CM; PowerWise: N; CompType: Analog IC; Published: 1-Mar-2010; DatasheetVersion: Nov-2009; PackageVersion: revJ, Aug-1995; PackageReference: M16A; Publisher: Altium Limited; PackageDescription: Molded Package, SO, .150in Wide, 16 Lead; Supplier 1: Digi-Key; Supplier Part Number 1: DS2003CMXTR-ND; Supplier 2: Digi-Key; Supplier Part Number 2: DS2003CMXCT-ND; Supplier 3: Digi-Key; Supplier Part Number 3: DS2003CMXDKR-ND; RoHS: Y; PinCount: 16; Code_JEDEC: MS-012-AC; Code_IPC: SOIC127P600-16; ComponentLink1Description: DS2003 Datasheet; ComponentLink1URL: http://www.national.com/ds/DS/DS2003.pdf; ComponentLink2Description: DS2003 Web Page; ComponentLink2URL: http://www.national.com/pf/DS/DS2003.html; ComponentLink3Description: M16A Package Page; ComponentLink3URL: http://www.national.com/packaging/folders/m16a.html
footprint M16A_N (SOIC, 16-Leads, Body 9.9x3.9mm, Pitch 1.27mm, IPC Medium Density)
footprint M16A_L (SOIC, 16-Leads, Body 9.9x3.9mm, Pitch 1.27mm, IPC High Density)
footprint M16A_M (SOIC, 16-Leads, Body 9.9x3.9mm, Pitch 1.27mm, IPC Low Density)
pins: 1 IN A (in), 2 IN B (in), 3 IN C (in), 4 IN D (in), 5 IN E (in), 6 IN F (in), 7 IN G (in), 8 GND (power), 9 COM, 10 OUT G (oc), 11 OUT F (oc), 12 OUT E (oc), 13 OUT D (oc), 14 OUT C (oc), 15 OUT B (oc), 16 OUT A (oc)

## DS2003TMX
designator U?
High Current/Voltage Darlington Drivers, 16-pin Narrow SOIC; PartNumber: DS2003TMX; Manufacturer: National Semiconductor; PackageTopMarking: NSUZXYTTE#*DS2003TM; PowerWise: N; CompType: Analog IC; Published: 4-Dec-2008; DatasheetVersion: Nov-2009; PackageVersion: revJ, Aug-1995; PackageReference: M16A; Publisher: Altium Limited; PackageDescription: Molded Package, SO, .150in Wide, 16 Lead; RoHS: N; PinCount: 16; Code_JEDEC: MS-012-AC; Code_IPC: SOIC127P600-16; ComponentLink1Description: DS2003 Datasheet; ComponentLink1URL: http://www.national.com/ds/DS/DS2003.pdf; ComponentLink2Description: DS2003 Web Page; ComponentLink2URL: http://www.national.com/pf/DS/DS2003.html; ComponentLink3Description: M16A Package Page; ComponentLink3URL: http://www.national.com/packaging/folders/m16a.html
footprint M16A_N (SOIC, 16-Leads, Body 9.9x3.9mm, Pitch 1.27mm, IPC Medium Density)
footprint M16A_L (SOIC, 16-Leads, Body 9.9x3.9mm, Pitch 1.27mm, IPC High Density)
footprint M16A_M (SOIC, 16-Leads, Body 9.9x3.9mm, Pitch 1.27mm, IPC Low Density)
pins: 1 IN A (in), 2 IN B (in), 3 IN C (in), 4 IN D (in), 5 IN E (in), 6 IN F (in), 7 IN G (in), 8 GND (power), 9 COM, 10 OUT G (oc), 11 OUT F (oc), 12 OUT E (oc), 13 OUT D (oc), 14 OUT C (oc), 15 OUT B (oc), 16 OUT A (oc)

## DS2003TMX/NOPB
designator U?
High Current/Voltage Darlington Driver, 16-pin Narrow SOIC, Pb-Free; PartNumber: DS2003TMX/NOPB; Manufacturer: National Semiconductor; PackageTopMarking: NSUZXYTTE#*DS2003TM; PowerWise: N; CompType: Analog IC; Published: 1-Mar-2010; DatasheetVersion: Nov-2009; PackageVersion: revJ, Aug-1995; PackageReference: M16A; Publisher: Altium Limited; PackageDescription: Molded Package, SO, .150in Wide, 16 Lead; Supplier 1: Digi-Key; Supplier Part Number 1: DS2003TMX-ND; RoHS: Y; PinCount: 16; Code_JEDEC: MS-012-AC; Code_IPC: SOIC127P600-16; ComponentLink1Description: DS2003 Datasheet; ComponentLink1URL: http://www.national.com/ds/DS/DS2003.pdf; ComponentLink2Description: DS2003 Web Page; ComponentLink2URL: http://www.national.com/pf/DS/DS2003.html; ComponentLink3Description: M16A Package Page; ComponentLink3URL: http://www.national.com/packaging/folders/m16a.html
footprint M16A_N (SOIC, 16-Leads, Body 9.9x3.9mm, Pitch 1.27mm, IPC Medium Density)
footprint M16A_L (SOIC, 16-Leads, Body 9.9x3.9mm, Pitch 1.27mm, IPC High Density)
footprint M16A_M (SOIC, 16-Leads, Body 9.9x3.9mm, Pitch 1.27mm, IPC Low Density)
pins: 1 IN A (in), 2 IN B (in), 3 IN C (in), 4 IN D (in), 5 IN E (in), 6 IN F (in), 7 IN G (in), 8 GND (power), 9 COM, 10 OUT G (oc), 11 OUT F (oc), 12 OUT E (oc), 13 OUT D (oc), 14 OUT C (oc), 15 OUT B (oc), 16 OUT A (oc)

## JL198BGA
designator U?
Monolithic Sample and Hold Circuit, 8-pin TO-99; PartNumber: JL198BGA; Manufacturer: National Semiconductor; PackageTopMarking: NS ZSSXXYYA 27014 Q*JM38510/12501BGA; PowerWise: N; CompType: Analog IC; High-Reliability: Y; Published: 29-May-2009; DatasheetVersion: Jul-2000; PackageVersion: revF, Jun-1995; PackageReference: H08C; Publisher: Altium Limited; PackageDescription: Metal Can, TO-99, 8 Lead, .200 Dia., P.C.; RoHS: N; PinCount: 8; Code_JEDEC: TO-99; ComponentLink1Description: LF198JAN Datasheet; ComponentLink1URL: http://www.national.com/ds/LF/LF198JAN.pdf; ComponentLink2Description: LF198JAN Web Page; ComponentLink2URL: http://www.national.com/pf/LF/LF198JAN.html; ComponentLink3Description: H08C Package Page; ComponentLink3URL: http://www.national.com/packaging/folders/h08c.html
footprint H08C (Can; 8 Leads; Pin Circle Dia. 5.08 mm; Lead Dia. 0.48 mm (max))
pins: 1 V+ (power), 2 OFFSET ADJ (in), 3 IN (in), 4 V- (power), 5 OUT (out), 6 CH, 7 LOGIC REF (in), 8 LOGIC (in)

## JL198SGA
designator U?
Monolithic Sample and Hold Circuit, 8-pin TO-99; PartNumber: JL198SGA; Manufacturer: National Semiconductor; PackageTopMarking: NS ZSSXXYYA 27014 Q*JM38510/12501SGA; PowerWise: N; CompType: Analog IC; High-Reliability: Y; Published: 29-May-2009; DatasheetVersion: Jul-2000; PackageVersion: revF, Jun-1995; PackageReference: H08C; Publisher: Altium Limited; PackageDescription: Metal Can, TO-99, 8 Lead, .200 Dia., P.C.; RoHS: N; PinCount: 8; Code_JEDEC: TO-99; ComponentLink1Description: LF198JAN Datasheet; ComponentLink1URL: http://www.national.com/ds/LF/LF198JAN.pdf; ComponentLink2Description: LF198JAN Web Page; ComponentLink2URL: http://www.national.com/pf/LF/LF198JAN.html; ComponentLink3Description: H08C Package Page; ComponentLink3URL: http://www.national.com/packaging/folders/h08c.html
footprint H08C (Can; 8 Leads; Pin Circle Dia. 5.08 mm; Lead Dia. 0.48 mm (max))
pins: 1 V+ (power), 2 OFFSET ADJ (in), 3 IN (in), 4 V- (power), 5 OUT (out), 6 CH, 7 LOGIC REF (in), 8 LOGIC (in)

## JM54AC151SFA-FH
designator U?
8-Input Multiplexer, 16-pin CerPACK; PartNumber: JM54AC151SFA-FH; Manufacturer: National Semiconductor; PackageTopMarking: NSZSSXXYYA*27014 Q*JM38510F*76201SFA; CompType: Analog IC; Published: 4-Dec-2008; DatasheetVersion: Jul-2003; PackageVersion: revT, Jul-2005; PackageReference: W16A; Publisher: Altium Limited; PackageDescription: Cerpack, .390 x .250 x .074in Body, 16 Lead, .050in Pitch; RoHS: N; PinCount: 16; Code_JEDEC: MO-092-AC; ComponentLink1Description: 54AC151 Datasheet; ComponentLink1URL: http://www.national.com/ds/54/54AC151.pdf; ComponentLink2Description: 54AC151 Web Page; ComponentLink2URL: http://www.national.com/pf/54/54AC151.html; ComponentLink3Description: W16A package page; ComponentLink3URL: http://www.national.com/packaging/folders/w16a.html
footprint W16A (DFP; 16 Leads; Body 9.9 x 7.6 mm (LxW max); Pitch 1.27 mm)
pins: 1 I3 (in), 2 I2 (in), 3 I1 (in), 4 I0 (in), 5 Z (out), 6 ~{Z} (out), 7 ~{E} (in), 8 GND (power), 9 S2 (in), 10 S1 (in), 11 S0 (in), 12 I7 (in), 13 I6 (in), 14 I5 (in), 15 I4 (in), 16 VCC (power)

## LF198AH
designator U?
Monolithic Sample and Hold Circuits, 8-pin TO-99; PartNumber: LF198AH; Manufacturer: National Semiconductor; PackageTopMarking: NSZXYTTE# LF198AH; PowerWise: N; CompType: Analog IC; High-Reliability: Y; Published: 4-Dec-2008; DatasheetVersion: Jul-2000; PackageVersion: revF, Jun-1995; PackageReference: H08C; Publisher: Altium Limited; PackageDescription: Metal Can, TO-99, 8 Lead, .200 Dia., P.C.; RoHS: N; PinCount: 8; Code_JEDEC: TO-99; ComponentLink1Description: LF198A Datasheet; ComponentLink1URL: http://www.national.com/ds/LF/LF198.pdf; ComponentLink2Description: LF198A Web Page; ComponentLink2URL: http://www.national.com/pf/LF/LF198A.html; ComponentLink3Description: H08C Package Page; ComponentLink3URL: http://www.national.com/packaging/folders/h08c.html
footprint H08C (Can; 8 Leads; Pin Circle Dia. 5.08 mm; Lead Dia. 0.48 mm (max))
pins: 1 V+ (power), 2 OFFSET ADJ (in), 3 IN (in), 4 V- (power), 5 OUT (out), 6 CH, 7 LOGIC REF (in), 8 LOGIC (in)

## LF198H/883
designator U?
Monolithic Sample and Hold Circuits, 8-pin TO-99; PartNumber: LF198H/883; Manufacturer: National Semiconductor; PackageTopMarking: NSZSSXXYYA LF198H/883 Q*5962-8760801GA; PowerWise: N; CompType: Analog IC; High-Reliability: Y; Published: 4-Dec-2008; DatasheetVersion: Jul-2000; PackageVersion: revF, Jun-1995; PackageReference: H08C; Publisher: Altium Limited; PackageDescription: Metal Can, TO-99, 8 Lead, .200 Dia., P.C.; RoHS: N; PinCount: 8; Code_JEDEC: TO-99; ComponentLink1Description: LF198 Datasheet; ComponentLink1URL: http://www.national.com/ds/LF/LF198QML.pdf; ComponentLink2Description: LF198 Web Page; ComponentLink2URL: http://www.national.com/pf/LF/LF198.html; ComponentLink3Description: H08C Package Page; ComponentLink3URL: http://www.national.com/packaging/folders/h08c.html
footprint H08C (Can; 8 Leads; Pin Circle Dia. 5.08 mm; Lead Dia. 0.48 mm (max))
pins: 1 V+ (power), 2 OFFSET ADJ (in), 3 IN (in), 4 V- (power), 5 OUT (out), 6 CH, 7 LOGIC REF (in), 8 LOGIC (in)

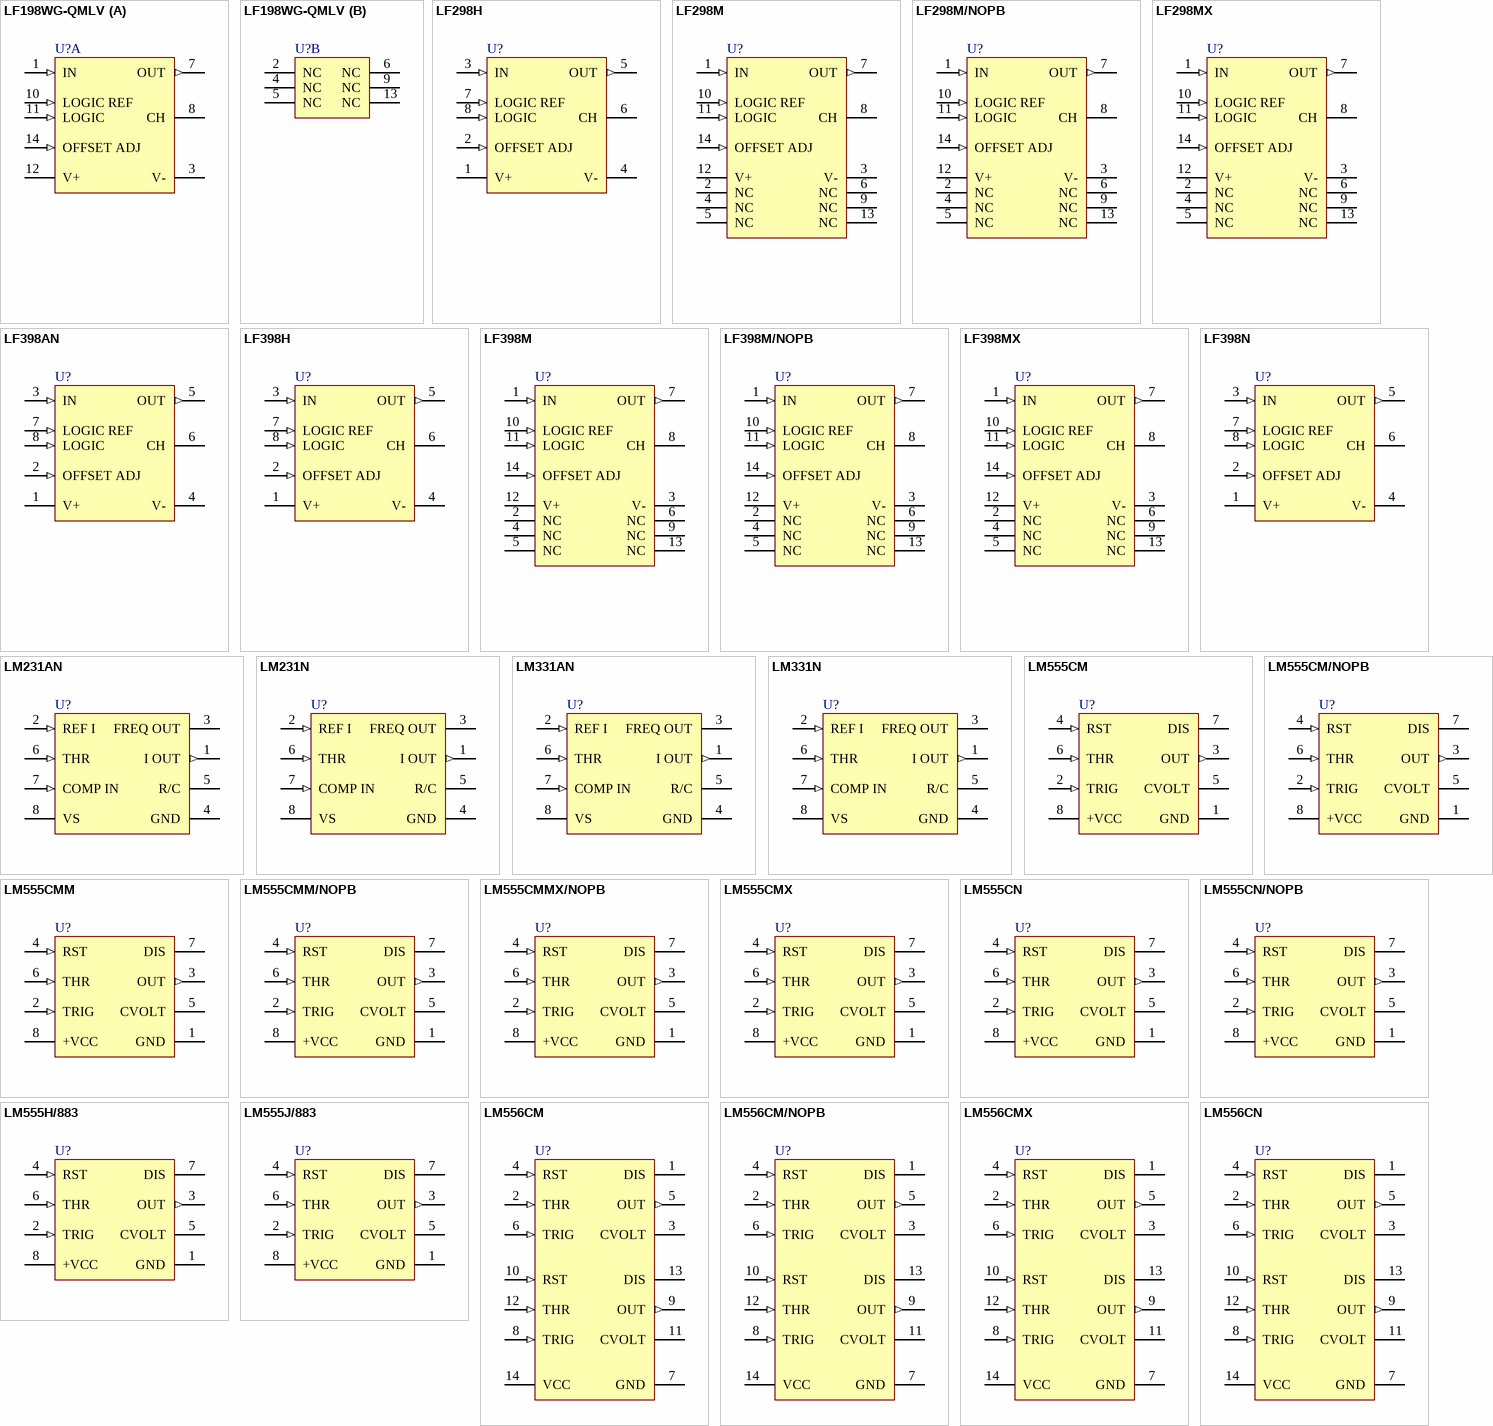
[diagram p4: symbols LF198WG-QMLV to LM556CN]

## LF198WG-QMLV
designator U?
Monolithic Sample and Hold Circuit, 14-pin CerPACK; PartNumber: LF198WG-QMLV; Manufacturer: National Semiconductor; PackageTopMarking: NSZSSXXYYA*LF198WG-*QV Q 5962-*8760801VZA; PowerWise: N; CompType: Analog IC; High-Reliability: Y; Published: 1-Mar-2010; DatasheetVersion: Feb-2010; PackageVersion: revD, Jul-2007; PackageReference: WG14A; Publisher: Altium Limited; PackageDescription: Cerpack, .390 x .250 x .070in, 14 Lead, .050in Pitch, Gull Wing; RoHS: N; PinCount: 14; ComponentLink1Description: LF198 Datasheet; ComponentLink1URL: http://www.national.com/ds/LF/LF198.pdf; ComponentLink2Description: LF198 Web Page; ComponentLink2URL: http://www.national.com/pf/LF/LF198.html; ComponentLink3Description: WG14A Package Page; ComponentLink3URL: http://www.national.com/packaging/folders/wg14a.html
footprint WG14A_N (CERPACK, 14-Leads, Body 9.9x6.5mm, Pitch 1.27mm, IPC Medium Density)
footprint WG14A_L (CERPACK, 14-Leads, Body 9.9x6.5mm, Pitch 1.27mm, IPC High Density)
footprint WG14A_M (CERPACK, 14-Leads, Body 9.9x6.5mm, Pitch 1.27mm, IPC Low Density)
part A pins: 1 IN (in), 3 V- (power), 7 OUT (out), 8 CH, 10 LOGIC REF (in), 11 LOGIC (in), 12 V+ (power), 14 OFFSET ADJ (in)
part B pins: 2 NC, 4 NC, 5 NC, 6 NC, 9 NC, 13 NC

## LF298H
designator U?
Monolithic Sample and Hold Circuits, 8-pin TO-99; PartNumber: LF298H; Manufacturer: National Semiconductor; PackageTopMarking: NSZXYTTE# LF298H; PowerWise: N; CompType: Analog IC; High-Reliability: Y; Published: 4-Dec-2008; DatasheetVersion: Jul-2000; PackageVersion: revF, Jun-1995; PackageReference: H08C; Publisher: Altium Limited; PackageDescription: Metal Can, TO-99, 8 Lead, .200 Dia., P.C.; RoHS: N; PinCount: 8; Code_JEDEC: TO-99; ComponentLink1Description: LF298 Datasheet; ComponentLink1URL: http://www.national.com/ds/LF/LF298.pdf; ComponentLink2Description: LF298 Web Page; ComponentLink2URL: http://www.national.com/pf/LF/LF298.html; ComponentLink3Description: H08C Package Page; ComponentLink3URL: http://www.national.com/packaging/folders/h08c.html
footprint H08C (Can; 8 Leads; Pin Circle Dia. 5.08 mm; Lead Dia. 0.48 mm (max))
pins: 1 V+ (power), 2 OFFSET ADJ (in), 3 IN (in), 4 V- (power), 5 OUT (out), 6 CH, 7 LOGIC REF (in), 8 LOGIC (in)

## LF298M
designator U?
Monolithic Sample and Hold Circuits, 14-pin Narrow SOIC; PartNumber: LF298M; Manufacturer: National Semiconductor; PackageTopMarking: NSUZXYTTE#*LF298M; PowerWise: N; CompType: Analog IC; Published: 4-Dec-2008; DatasheetVersion: Jul-2000; PackageVersion: revJ, Jan-1996; PackageReference: M14A; Publisher: Altium Limited; PackageDescription: Molded Package S.O., .150in Wide, 14 Lead; Supplier 1: Farnell; Supplier Part Number 1: 8221820; RoHS: N; PinCount: 14; Code_JEDEC: MS-012AB; Code_IPC: SOIC127P600-14; ComponentLink1Description: LF298 Datasheet; ComponentLink1URL: http://www.national.com/ds/LF/LF298.pdf; ComponentLink2Description: LF298 Web Page; ComponentLink2URL: http://www.national.com/pf/LF/LF298.html; ComponentLink3Description: M14A Package Page; ComponentLink3URL: http://www.national.com/packaging/folders/m14a.html
footprint M14A_N (SOIC, 14-Leads, Body 8.6x3.9mm, Pitch 1.27mm, IPC Medium Density)
footprint M14A_L (SOIC, 14-Leads, Body 8.6x3.9mm, Pitch 1.27mm, IPC High Density)
footprint M14A_M (SOIC, 14-Leads, Body 8.6x3.9mm, Pitch 1.27mm, IPC Low Density)
pins: 1 IN (in), 2 NC, 3 V- (power), 4 NC, 5 NC, 6 NC, 7 OUT (out), 8 CH, 9 NC, 10 LOGIC REF (in), 11 LOGIC (in), 12 V+ (power), 13 NC, 14 OFFSET ADJ (in)

## LF298M/NOPB
designator U?
Monolithic Sample and Hold Circuit, 14-pin Narrow SOIC, Pb-Free; PartNumber: LF298M/NOPB; Manufacturer: National Semiconductor; PackageTopMarking: NSUZXYTTE#*LF298M; PowerWise: N; CompType: Analog IC; Published: 1-Mar-2010; DatasheetVersion: Jul-2000; PackageVersion: revJ, Jan-1996; PackageReference: M14A; Publisher: Altium Limited; PackageDescription: Molded Package S.O., .150in Wide, 14 Lead; Supplier 1: Digi-Key; Supplier Part Number 1: LF298M-ND; Supplier 2: Farnell; Supplier Part Number 2: 1559314; RoHS: Y; PinCount: 14; Code_JEDEC: MS-012AB; Code_IPC: SOIC127P600-14; ComponentLink1Description: LF298 Datasheet; ComponentLink1URL: http://www.national.com/ds/LF/LF298.pdf; ComponentLink2Description: LF298 Web Page; ComponentLink2URL: http://www.national.com/pf/LF/LF298.html; ComponentLink3Description: M14A Package Page; ComponentLink3URL: http://www.national.com/packaging/folders/m14a.html
footprint M14A_N (SOIC, 14-Leads, Body 8.6x3.9mm, Pitch 1.27mm, IPC Medium Density)
footprint M14A_L (SOIC, 14-Leads, Body 8.6x3.9mm, Pitch 1.27mm, IPC High Density)
footprint M14A_M (SOIC, 14-Leads, Body 8.6x3.9mm, Pitch 1.27mm, IPC Low Density)
pins: 1 IN (in), 2 NC, 3 V- (power), 4 NC, 5 NC, 6 NC, 7 OUT (out), 8 CH, 9 NC, 10 LOGIC REF (in), 11 LOGIC (in), 12 V+ (power), 13 NC, 14 OFFSET ADJ (in)

## LF298MX
designator U?
Monolithic Sample and Hold Circuits, 14-pin Narrow SOIC; PartNumber: LF298MX; Manufacturer: National Semiconductor; PackageTopMarking: NSUZXYTTE#*LF298M; PowerWise: N; CompType: Analog IC; Published: 4-Dec-2008; DatasheetVersion: Jul-2000; PackageVersion: revJ, Jan-1996; PackageReference: M14A; Publisher: Altium Limited; PackageDescription: Molded Package S.O., .150in Wide, 14 Lead; RoHS: N; PinCount: 14; Code_JEDEC: MS-012AB; Code_IPC: SOIC127P600-14; ComponentLink1Description: LF298 Datasheet; ComponentLink1URL: http://www.national.com/ds/LF/LF298.pdf; ComponentLink2Description: LF298 Web Page; ComponentLink2URL: http://www.national.com/pf/LF/LF298.html; ComponentLink3Description: M14A Package Page; ComponentLink3URL: http://www.national.com/packaging/folders/m14a.html
footprint M14A_N (SOIC, 14-Leads, Body 8.6x3.9mm, Pitch 1.27mm, IPC Medium Density)
footprint M14A_L (SOIC, 14-Leads, Body 8.6x3.9mm, Pitch 1.27mm, IPC High Density)
footprint M14A_M (SOIC, 14-Leads, Body 8.6x3.9mm, Pitch 1.27mm, IPC Low Density)
pins: 1 IN (in), 2 NC, 3 V- (power), 4 NC, 5 NC, 6 NC, 7 OUT (out), 8 CH, 9 NC, 10 LOGIC REF (in), 11 LOGIC (in), 12 V+ (power), 13 NC, 14 OFFSET ADJ (in)

## LF398AN
designator U?
Monolithic Sample and Hold Circuits, 8-pin MDIP; PartNumber: LF398AN; Manufacturer: National Semiconductor; PackageTopMarking: NSUZXYTTE#*LF*398AN; PowerWise: N; CompType: Analog IC; Published: 4-Dec-2008; DatasheetVersion: Jul-2000; PackageVersion: revG, May-2006; PackageReference: N08E; Publisher: Altium Limited; PackageDescription: MDIP, .365 x .250 x .130in, 8 Lead, .100in Pitch; Supplier 1: Farnell; Supplier Part Number 1: 9485937; RoHS: N; PinCount: 8; Code_JEDEC: MS-001-BA; ComponentLink1Description: LF398A Datasheet; ComponentLink1URL: http://www.national.com/ds/LF/LF398.pdf; ComponentLink2Description: LF398A Web Page; ComponentLink2URL: http://www.national.com/pf/LF/LF398A.html; ComponentLink3Description: N08E Package Page; ComponentLink3URL: http://www.national.com/packaging/folders/n08e.html
footprint N08E (DIP, 8-Leads, Row Spacing 7.62mm, Pitch 2.54mm, Body 9.91x6.35mm)
pins: 1 V+ (power), 2 OFFSET ADJ (in), 3 IN (in), 4 V- (power), 5 OUT (out), 6 CH, 7 LOGIC REF (in), 8 LOGIC (in)

## LF398H
designator U?
Monolithic Sample and Hold Circuit, 8-pin TO-99; PartNumber: LF398H; Manufacturer: National Semiconductor; PackageTopMarking: NSZXYTTE# LF398H; PowerWise: N; CompType: Analog IC; High-Reliability: Y; Published: 29-May-2009; DatasheetVersion: Jul-2000; PackageVersion: revF, Jun-1995; PackageReference: H08C; Publisher: Altium Limited; PackageDescription: Metal Can, TO-99, 8 Lead, .200 Dia., P.C.; Supplier 1: Farnell; Supplier Part Number 1: 1216161; RoHS: N; PinCount: 8; Code_JEDEC: TO-99; ComponentLink1Description: LF398 Datasheet; ComponentLink1URL: http://www.national.com/ds/LF/LF398.pdf; ComponentLink2Description: LF398 Web Page; ComponentLink2URL: http://www.national.com/pf/LF/LF398.html; ComponentLink3Description: H08C Package Page; ComponentLink3URL: http://www.national.com/packaging/folders/h08c.html
footprint H08C (Can; 8 Leads; Pin Circle Dia. 5.08 mm; Lead Dia. 0.48 mm (max))
pins: 1 V+ (power), 2 OFFSET ADJ (in), 3 IN (in), 4 V- (power), 5 OUT (out), 6 CH, 7 LOGIC REF (in), 8 LOGIC (in)

## LF398M
designator U?
Monolithic Sample and Hold Circuits, 14-pin Narrow SOIC; PartNumber: LF398M; Manufacturer: National Semiconductor; PackageTopMarking: NSUZXYTTE#*LF398M; PowerWise: N; CompType: Analog IC; Published: 4-Dec-2008; DatasheetVersion: Jul-2000; PackageVersion: revJ, Jan-1996; PackageReference: M14A; Publisher: Altium Limited; PackageDescription: Molded Package S.O., .150in Wide, 14 Lead; Supplier 1: Farnell; Supplier Part Number 1: 1798350; RoHS: N; PinCount: 14; Code_JEDEC: MS-012AB; Code_IPC: SOIC127P600-14; ComponentLink1Description: LF398 Datasheet; ComponentLink1URL: http://www.national.com/ds/LF/LF398.pdf; ComponentLink2Description: LF398 Web Page; ComponentLink2URL: http://www.national.com/pf/LF/LF398.html; ComponentLink3Description: M14A Package Page; ComponentLink3URL: http://www.national.com/packaging/folders/m14a.html
footprint M14A_N (SOIC, 14-Leads, Body 8.6x3.9mm, Pitch 1.27mm, IPC Medium Density)
footprint M14A_L (SOIC, 14-Leads, Body 8.6x3.9mm, Pitch 1.27mm, IPC High Density)
footprint M14A_M (SOIC, 14-Leads, Body 8.6x3.9mm, Pitch 1.27mm, IPC Low Density)
pins: 1 IN (in), 2 NC, 3 V- (power), 4 NC, 5 NC, 6 NC, 7 OUT (out), 8 CH, 9 NC, 10 LOGIC REF (in), 11 LOGIC (in), 12 V+ (power), 13 NC, 14 OFFSET ADJ (in)

## LF398M/NOPB
designator U?
Monolithic Sample and Hold Circuit, 14-pin Narrow SOIC, Pb-Free; PartNumber: LF398M/NOPB; Manufacturer: National Semiconductor; PackageTopMarking: NSUZXYTTE#*LF398M; PowerWise: N; CompType: Analog IC; Published: 1-Mar-2010; DatasheetVersion: Jul-2000; PackageVersion: revJ, Jan-1996; PackageReference: M14A; Publisher: Altium Limited; PackageDescription: Molded Package S.O., .150in Wide, 14 Lead; Supplier 1: Digi-Key; Supplier Part Number 1: LF398M-ND; Supplier 2: Farnell; Supplier Part Number 2: 1496014; RoHS: Y; PinCount: 14; Code_JEDEC: MS-012AB; Code_IPC: SOIC127P600-14; ComponentLink1Description: LF398 Datasheet; ComponentLink1URL: http://www.national.com/ds/LF/LF398.pdf; ComponentLink2Description: LF398 Web Page; ComponentLink2URL: http://www.national.com/pf/LF/LF398.html; ComponentLink3Description: M14A Package Page; ComponentLink3URL: http://www.national.com/packaging/folders/m14a.html
footprint M14A_N (SOIC, 14-Leads, Body 8.6x3.9mm, Pitch 1.27mm, IPC Medium Density)
footprint M14A_L (SOIC, 14-Leads, Body 8.6x3.9mm, Pitch 1.27mm, IPC High Density)
footprint M14A_M (SOIC, 14-Leads, Body 8.6x3.9mm, Pitch 1.27mm, IPC Low Density)
pins: 1 IN (in), 2 NC, 3 V- (power), 4 NC, 5 NC, 6 NC, 7 OUT (out), 8 CH, 9 NC, 10 LOGIC REF (in), 11 LOGIC (in), 12 V+ (power), 13 NC, 14 OFFSET ADJ (in)

## LF398MX
designator U?
Monolithic Sample and Hold Circuits, 14-pin Narrow SOIC; PartNumber: LF398MX; Manufacturer: National Semiconductor; PackageTopMarking: NSUZXYTTE#*LF398M; PowerWise: N; CompType: Analog IC; Published: 4-Dec-2008; DatasheetVersion: Jul-2000; PackageVersion: revJ, Jan-1996; PackageReference: M14A; Publisher: Altium Limited; PackageDescription: Molded Package S.O., .150in Wide, 14 Lead; RoHS: N; PinCount: 14; Code_JEDEC: MS-012AB; Code_IPC: SOIC127P600-14; ComponentLink1Description: LF398 Datasheet; ComponentLink1URL: http://www.national.com/ds/LF/LF398.pdf; ComponentLink2Description: LF398 Web Page; ComponentLink2URL: http://www.national.com/pf/LF/LF398.html; ComponentLink3Description: M14A Package Page; ComponentLink3URL: http://www.national.com/packaging/folders/m14a.html
footprint M14A_N (SOIC, 14-Leads, Body 8.6x3.9mm, Pitch 1.27mm, IPC Medium Density)
footprint M14A_L (SOIC, 14-Leads, Body 8.6x3.9mm, Pitch 1.27mm, IPC High Density)
footprint M14A_M (SOIC, 14-Leads, Body 8.6x3.9mm, Pitch 1.27mm, IPC Low Density)
pins: 1 IN (in), 2 NC, 3 V- (power), 4 NC, 5 NC, 6 NC, 7 OUT (out), 8 CH, 9 NC, 10 LOGIC REF (in), 11 LOGIC (in), 12 V+ (power), 13 NC, 14 OFFSET ADJ (in)

## LF398N
designator U?
Monolithic Sample and Hold Circuits, 8-pin MDIP; PartNumber: LF398N; Manufacturer: National Semiconductor; PackageTopMarking: NSUZXYTTE#*LF*398N; PowerWise: N; CompType: Analog IC; Published: 4-Dec-2008; DatasheetVersion: Jul-2000; PackageVersion: revG, May-2006; PackageReference: N08E; Publisher: Altium Limited; PackageDescription: MDIP, .365 x .250 x .130in, 8 Lead, .100in Pitch; Supplier 1: Farnell; Supplier Part Number 1: 9487140; RoHS: N; PinCount: 8; Code_JEDEC: MS-001-BA; ComponentLink1Description: LF398 Datasheet; ComponentLink1URL: http://www.national.com/ds/LF/LF398.pdf; ComponentLink2Description: LF398 Web Page; ComponentLink2URL: http://www.national.com/pf/LF/LF398.html; ComponentLink3Description: N08E Package Page; ComponentLink3URL: http://www.national.com/packaging/folders/n08e.html
footprint N08E (DIP, 8-Leads, Row Spacing 7.62mm, Pitch 2.54mm, Body 9.91x6.35mm)
pins: 1 V+ (power), 2 OFFSET ADJ (in), 3 IN (in), 4 V- (power), 5 OUT (out), 6 CH, 7 LOGIC REF (in), 8 LOGIC (in)

## LM231AN
designator U?
Precision Voltage-to-Frequency Converters, 8-pin MDIP; PartNumber: LM231AN; Manufacturer: National Semiconductor; PackageTopMarking: NSUZXYTTE#*LM*231AN; PowerWise: N; CompType: Analog IC; Published: 4-Dec-2008; DatasheetVersion: Apr-2006; PackageVersion: revG, May-2006; PackageReference: N08E; Publisher: Altium Limited; PackageDescription: MDIP, .365 x .250 x .130in, 8 Lead, .100in Pitch; Supplier 1: Farnell; Supplier Part Number 1: 4465854; RoHS: N; PinCount: 8; Code_JEDEC: MS-001-BA; ComponentLink1Description: LM231 Datasheet; ComponentLink1URL: http://www.national.com/ds/LM/LM231.pdf; ComponentLink2Description: LM231 Web Page; ComponentLink2URL: http://www.national.com/pf/LM/LM231.html; ComponentLink3Description: N08E Package Page; ComponentLink3URL: http://www.national.com/packaging/folders/n08e.html
footprint N08E (DIP, 8-Leads, Row Spacing 7.62mm, Pitch 2.54mm, Body 9.91x6.35mm)
pins: 1 I OUT (out), 2 REF I (in), 3 FREQ OUT (oc), 4 GND (power), 5 R/C, 6 THR (in), 7 COMP IN (in), 8 VS (power)